# EAGLE library part PICOCLASP-10 (library greg-Connector)
10-pin Molex Pico-Clasp headers Molex Part numbers Right Angle, gold plated, 1.0 mm pitch: 2023961007 Right Angle, tin plated, 1.0 mm pitch: 5015681007
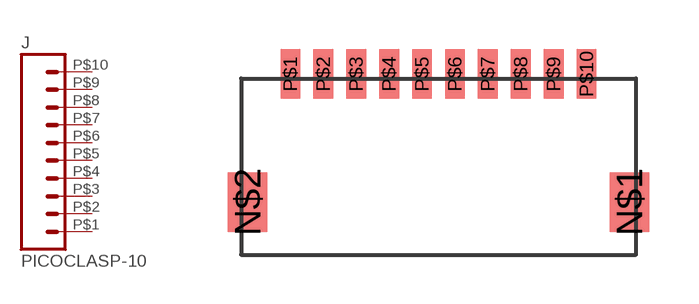
[diagram p0: symbol with the pads of PICOCLASP-10-RA; footprint PICOCLASP-10-RA]

Designator prefix J

## PICOCLASP-10RA  [PICOCLASP-10-RA]
P$1  1  pas
P$2  2  pas
P$3  3  pas
P$4  4  pas
P$5  5  pas
P$6  6  pas
P$7  7  pas
P$8  8  pas
P$9  9  pas
P$10  10  pas

## Footprint PICOCLASP-10-RA (pad centres in mm)
smd 1.2 x 1.8: N$1 5.8,-1.08; N$2 -5.8,-1.08
smd 0.6 x 1.5: P$1 -4.5,2.82; P$2 -3.5,2.82; P$3 -2.5,2.82; P$4 -1.5,2.82; P$5 -0.5,2.82; P$6 0.5,2.82; P$7 1.5,2.82; P$8 2.5,2.82; P$9 3.5,2.82; P$10 4.5,2.82